# EAGLE library part IOWARRIOR24 (library Prof_Lachmayer)
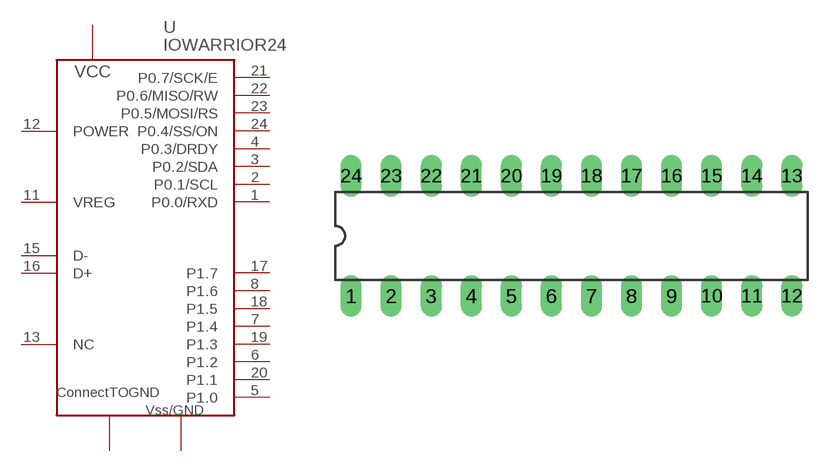
[diagram p1: symbol with the pads of DIL24-3; footprint DIL24-3]

Designator prefix -

## IOWARRIOR24DIL24  [DIL24-3]
1  P0.0/RXD
2  P0.1/SCL
3  P0.2/SDA
4  P0.3/DRDY
5  P1.0
6  P1.2
7  P1.4
8  P1.6
9  VSS  pwr
10  GND
11  VREG
12  POWER
13  NC  nc
14  VCC  pwr
15  D-
16  D+
17  P1.7
18  P1.5
19  P1.3
20  P1.1
21  P0.7/SCK/E
22  P0.6/MISO/RW
23  P0.5/MOSI/RS
24  P0.4/SS/ON

## Footprint DIL24-3 (pad centres in mm)
Dual In Line Package 0.3 inch
drill 0.813 long: 1 -13.97,-3.81; 2 -11.43,-3.81; 3 -8.89,-3.81; 4 -6.35,-3.81; 5 -3.81,-3.81; 6 -1.27,-3.81; 7 1.27,-3.81; 8 3.81,-3.81; 9 6.35,-3.81; 10 8.89,-3.81; 11 11.43,-3.81; 12 13.97,-3.81; 13 13.97,3.81; 14 11.43,3.81; 15 8.89,3.81; 16 6.35,3.81; 17 3.81,3.81; 18 1.27,3.81; 19 -1.27,3.81; 20 -3.81,3.81; 21 -6.35,3.81; 22 -8.89,3.81; 23 -11.43,3.81; 24 -13.97,3.81